# EAGLE library part JTOS-100 (library rf-jqi)
VCO, 50-100 MHz
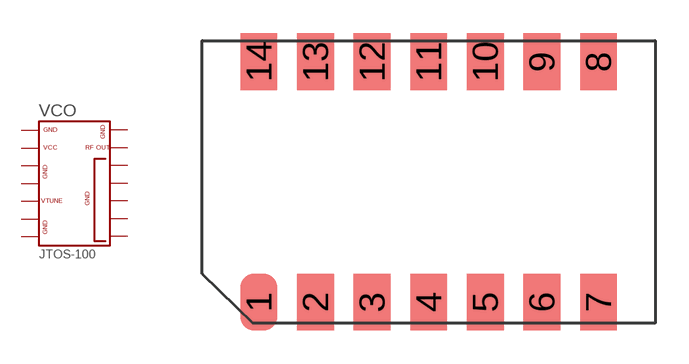
[diagram p6: symbol with the pads of BK377; footprint BK377]

Designator prefix VCO

## JTOS-100  [BK377]
1  1-GND  sup
2  2-VCC  pwr
3  3-GND  sup
4  4-GND  sup
5  5-VTUNE  in
6  6-GND  sup
7  7-GND  sup
8  8-GND  sup
9  9-GND  sup
10  10-GND  sup
11  11-GND  sup
12  12-GND  sup
13  13-RFOUT  out
14  14-GND  sup

## Footprint BK377 (pad centres in mm)
smd 1.651 x 2.54: 1 -7.62,-5.08; 2 -5.08,-5.08; 3 -2.54,-5.08; 4 0,-5.08; 5 2.54,-5.08; 6 5.08,-5.08; 7 7.62,-5.08; 8 7.62,5.715; 9 5.08,5.715; 10 2.54,5.715; 11 0,5.715; 12 -2.54,5.715; 13 -5.08,5.715; 14 -7.62,5.715